# Altium schematic symbol library WE-EPLE.SchLib: 1 symbol
Pins are listed as number, name and electrical type; pins without a type are passive.

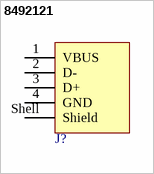
[diagram p0: symbol 8492121]

## 8492121
designator J?  (value not drawn)
WE-EPLE USB 2.0 A Connector, THT, 1 Port, 5VDC; Manufacturer: Wurth Elektronik; Number of Ports: 1; Operating Voltage (DC): 5V; (Reverse) Breakdown Voltage: 6V; Manufacturer Part Number: 8492121; Category: Filtered Connectors; Match Code: WE-EPLE; ComponentLink1Description: Website Link; ComponentLink1URL: https://www.we-online.com/redexpert/article/8492121?ad; ComponentLink2Description: Datasheet Link; ComponentLink2URL: https://www.we-online.com/redexpert/spec/8492121?ad; Mount: Through Hole; Operating Temperature Max: 85°C; Operating Temperature Min: -40°C; Packaging: Tape and Reel; Length: 13.8mm; Width: 14.5mm; Height: 6.8mm
footprint 8492121
pins: 1 VBUS, 2 D-, 3 D+, 4 GND, Shell Shield